# Altium schematic symbol library Library.SchLib: 692 symbols (part 10 of 11)
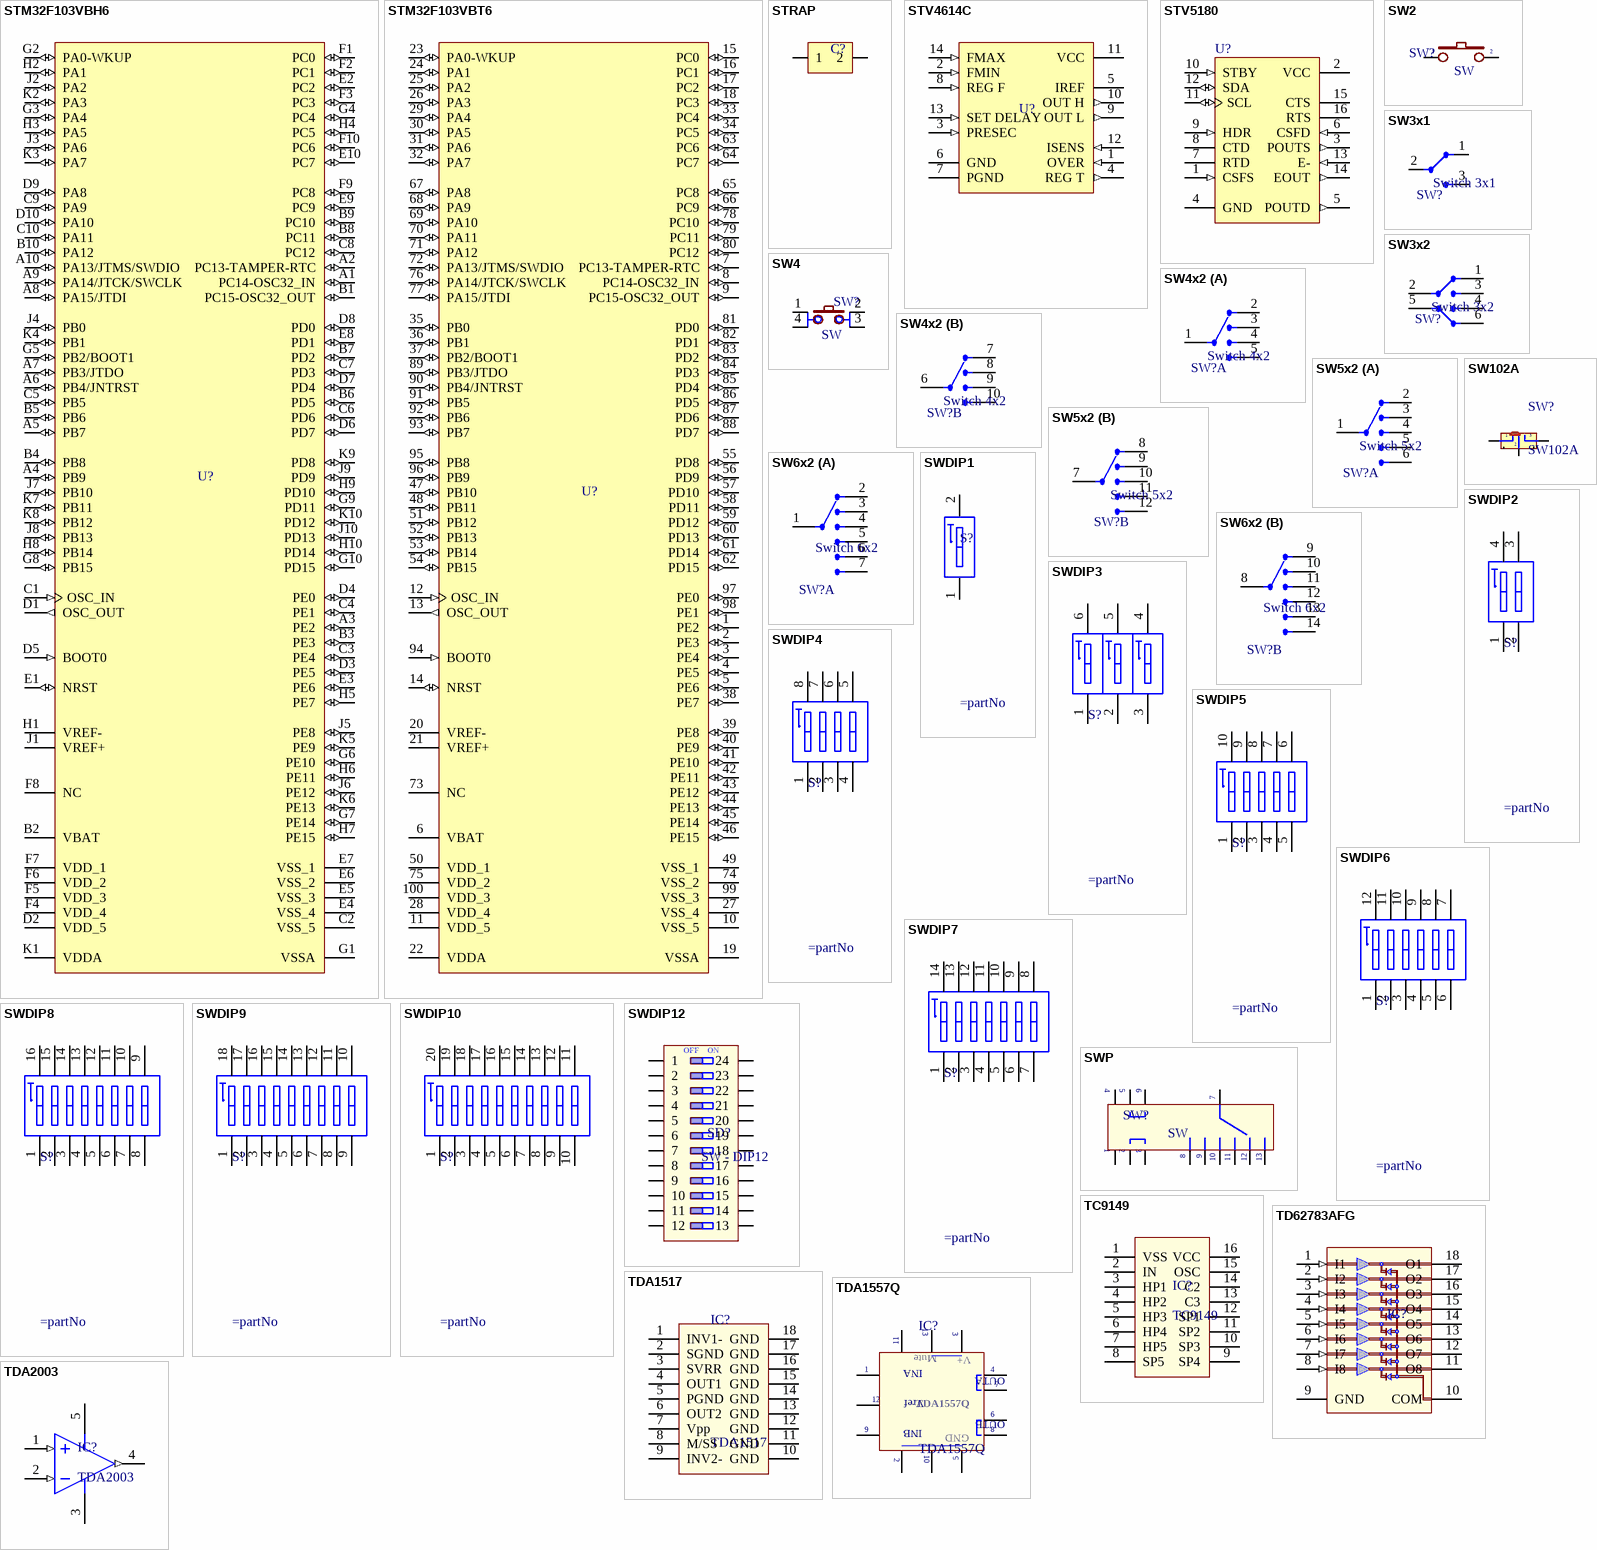
[diagram p55: symbols STM32F103VBH6 to TDA2003]

## STM32F103VBT6
designator U?
STM32 ARM-based 32-bit MCU with 64 Kbytes Flash, 100-pin LQFP, Industrial Temperature; Published: 30-May-2008; DatasheetVersion: rev6, Mar-2008; PackageVersion: Mar-2008; PackageReference: LQFP100; Publisher: Altium Limited; PackageDescription: 100-Pin Low-Profile Quad Flat Pack, 14 x 14 mm Body, 0.5 mm Pitch (LQFP100); ComponentLink1Description: Manufacturer Link; ComponentLink1URL: www.st.com/stm32; ComponentLink2Description: Datasheet; ComponentLink2URL: http://www.st.com/stonline/products/literature/ds/13587.pdf
footprint TQFP100L (TQFP, 100-Leads, Body 14.00x14.00mm, Pitch 0.50mm, IPC High Density)
pins: 1 PE2 (io), 2 PE3 (io), 3 PE4 (io), 4 PE5 (io), 5 PE6 (io), 6 VBAT (power), 7 PC13-TAMPER-RTC (io), 8 PC14-OSC32_IN (io), 9 PC15-OSC32_OUT (io), 10 VSS_5 (power), 11 VDD_5 (power), 12 OSC_IN (in), 13 OSC_OUT (out), 14 NRST (io), 15 PC0 (io), 16 PC1 (io), 17 PC2 (io), 18 PC3 (io), 19 VSSA (power), 20 VREF- (power), 21 VREF+ (power), 22 VDDA (power), 23 PA0-WKUP (io), 24 PA1 (io), 25 PA2 (io), 26 PA3 (io), 27 VSS_4 (power), 28 VDD_4 (power), 29 PA4 (io), 30 PA5 (io), 31 PA6 (io), 32 PA7 (io), 33 PC4 (io), 34 PC5 (io), 35 PB0 (io), 36 PB1 (io), 37 PB2/BOOT1 (io), 38 PE7 (io), 39 PE8 (io), 40 PE9 (io), 41 PE10 (io), 42 PE11 (io), 43 PE12 (io), 44 PE13 (io), 45 PE14 (io), 46 PE15 (io), 47 PB10 (io), 48 PB11 (io), 49 VSS_1 (power), 50 VDD_1 (power), 51 PB12 (io), 52 PB13 (io), 53 PB14 (io), 54 PB15 (io), 55 PD8 (io), 56 PD9 (io), 57 PD10 (io), 58 PD11 (io), 59 PD12 (io), 60 PD13 (io), 61 PD14 (io), 62 PD15 (io), 63 PC6 (io), 64 PC7 (io), 65 PC8 (io), 66 PC9 (io), 67 PA8 (io), 68 PA9 (io), 69 PA10 (io), 70 PA11 (io), 71 PA12 (io), 72 PA13/JTMS/SWDIO (io), 73 NC, 74 VSS_2 (power), 75 VDD_2 (power), 76 PA14/JTCK/SWCLK (io), 77 PA15/JTDI (io), 78 PC10 (io), 79 PC11 (io), 80 PC12 (io), 81 PD0 (io), 82 PD1 (io), 83 PD2 (io), 84 PD3 (io), 85 PD4 (io), 86 PD5 (io), 87 PD6 (io), 88 PD7 (io), 89 PB3/JTDO (io), 90 PB4/JNTRST (io), 91 PB5 (io), 92 PB6 (io), 93 PB7 (io), 94 BOOT0 (in), 95 PB8 (io), 96 PB9 (io), 97 PE0 (io), 98 PE1 (io), 99 VSS_3 (power), 100 VDD_3 (power)

## STRAP
designator C?
Manufacturer: W¨¹rth Elektronik eiSos GmbH; partNo: 613002143121; ComponentLink1 Description: Manufacturer; ComponentLink2 Description: Datasheet; NoPins: 02; Created Date: 29 March 2013; ComponentLink1URL: http://www.we-online.com; ComponentLink2URL: http://katalog.we-online.de/em/datasheet/6130xx143121.pdf; Created by: Karrer Zheng
footprint STRAP-3.81
footprint STRAP-4.445
footprint STRAP-5.08
footprint STRAP-6.35
footprint STRAP-7.62
footprint STRAP-10.16
footprint STRAP-8.89
footprint STRAP-11.43
footprint STRAP-12.7
footprint STRAP-13.97
footprint STRAP-15.24
footprint STRAP-16.51
footprint STRAP-17.78
footprint STRAP-19.05
footprint STRAP-20.32
footprint STRAP-21.59
footprint STRAP-22.86
footprint STRAP-24.13
pins: 1, 2

## STV4614C
designator U?
Switch Mode Power Supply Controller; Published: 24-Aug-2001; LatestRevisionDate: 06-Jun-2005; LatestRevisionNote: Stylized 3D Model Added.; DatasheetVersion: May-1995; PackageVersion: Jan-1997; PackageReference: DIP14; Publisher: Altium Limited; PackageDescription: DIP; 14 Leads; Row Spacing 7.62 mm; Pitch 2.54 mm; ComponentLink1Description: Manufacturer Link; ComponentLink1URL: http://www.st.com/
footprint DIP14 (DIP; 14 Leads; Row Spacing 7.62 mm; Pitch 2.54 mm)
pins: 1 OVER (in), 2 FMIN (in), 3 PRESEC (in), 4 REG T (out), 5 IREF, 6 GND (power), 7 PGND (power), 8 REG F (in), 9 OUT L (out), 10 OUT H (out), 11 VCC (power), 12 ISENS (in), 13 SET DELAY (in), 14 FMAX (in)

## STV5180
designator U?
Control I.C. for Switch Mode Power Supply and for Line Deflection; Published: 24-Aug-2001; LatestRevisionDate: 13-Apr-2006; LatestRevisionNote: IPC-7351 Footprint Added.; DatasheetVersion: Aug-1994; PackageVersion: May-1998; PackageReference: SO16; Publisher: Altium Limited; PackageDescription: 16-Pin Small Outline Integrated Circuit 1.27 mm Pitch; Code_IPC: SOIC127P600-16; ComponentLink1Description: Manufacturer Link; ComponentLink1URL: http://www.st.com/
footprint SO16 (SOIC, 16-Leads, Body 9.90x3.91mm, Pitch 1.27mm, IPC Medium Density)
footprint DIP16
pins: 1 CSFS (in), 2 VCC (power), 3 POUTS (out), 4 GND (power), 5 POUTD (out), 6 CSFD (in), 7 RTD, 8 CTD, 9 HDR (in), 10 STBY (in), 11 SCL (io), 12 SDA (io), 13 E- (in), 14 EOUT (out), 15 CTS, 16 RTS

## SW2
designator SW?, comment SW
Switch button 2 pin; Value: SW chip 2 pin
footprint SW1-SMD
footprint SW-DIP1
footprint SW-DIP1-1 (01p, 2.54mm Pitch, Horizontal, Box Type, THT, flat Actuator, red, without Tape, Tube)
footprint SW1-DIP
pins: 1, 2

## SW3x1
designator SW?, comment Switch 3x1
Value: Switch 4x2
footprint SW3x1
pins: 1, 2, 3 I/O2

## SW3x2
designator SW?, comment Switch 3x2
Value: Switch 4x2
footprint SW3-DIP (SW DTDP - 6Pin 260x300x300 mil)
footprint SW3-N
footprint SW3-N1
pins: 1, 2, 3 I/O2, 4, 5 6, 6

## SW4
designator SW?, comment SW
Switch button 4 pin; Value: Button chip 4 pin
footprint SW2-SMD (6*6mm vertical type, SMD, height 5.0mm, black actuator, 160gf, T&R)
footprint SW2-DIP (SW button 4pin, 250 x250 mil)
pins: 1, 2, 3, 4

## SW4x2
designator SW?, comment Switch 4x2
Value: Switch 4x2
footprint SW4X2 (Switch 4x2)
part A pins: 1 Com, 2 I/O1, 3 I/O2, 4 I/O3, 5 I/O4
part B pins: 6 I/O9, 7 Com2, 8 I/O6, 9 I/O7, 10 I/O8

## SW5x2
designator SW?, comment Switch 5x2
Value: Switch 5x2
footprint SW5X2 (Switch 5x2)
part A pins: 1 Com, 2 I/O1, 3 I/O2, 4 I/O3, 5 I/O4, 6 I/O5
part B pins: 7 Com2, 8 I/O6, 9 I/O7, 10 I/O8, 11 I/O9, 12 I/O10

## SW6x2
designator SW?, comment Switch 6x2
Value: Switch 6x2
footprint SW6X2 (Switch 6x2)
part A pins: 1 Com, 2 I/O1, 3 I/O2, 4 I/O3, 5 I/O4, 6 I/O5, 7 I/O6
part B pins: 8 I/O6, 9 I/O7, 10 I/O8, 11 I/O9, 12 I/O10, 13 I/O11, 14 I/O12

## SW102A
designator SW?
Switch 102 on Broad; Value: Switch 102 On Board
footprint SW102 (Switch 102 On Board nho)
footprint SW102T (Switch 102 On Board To)
pins: 1, 2, 3, 4, 5

## SWDIP1
designator S?
WS-DITV 2.54 mm small compact THT flat actuator with top tape; Manufacturer: Wurth Elektronik; Part No.: 418127160901; ComponentLink1 Description: Manufacturer; ComponentLink2 Description: Datasheet; Pole: 01; Created Date: Dec.2015; ComponentLink1URL: http://www.we-online.com; ComponentLink2URL: http://katalog.we-online.de/em/datasheet/4181271609xx.pdf; Created by: Baojun Chen
footprint SW-DIP1
footprint SW-DIP1-1 (01p, 2.54mm Pitch, Horizontal, Box Type, THT, flat Actuator, red, without Tape, Tube)
pins: 1, 2

## SWDIP2
designator S?
WS-DITV 2.54 mm small compact THT flat actuator with top tape; Manufacturer: Wurth Elektronik; Part No.: 418127160902; ComponentLink1 Description: Manufacturer; ComponentLink2 Description: Datasheet; Pole: 02; Created Date: Dec.2015; ComponentLink1URL: http://www.we-online.com; ComponentLink2URL: http://katalog.we-online.de/em/datasheet/4181271609xx.pdf; Created by: Baojun Chen
footprint SW-DIP2 (02p, 2.54mm Pitch, Horizontal, Box Type, THT, flat Actuator, red, without Tape, Tube)
footprint SW-DIP2-1
pins: 1, 2, 3, 4

## SWDIP3
designator S?
WS-DITV 2.54 mm small compact THT flat actuator with top tape; Manufacturer: Wurth Elektronik; Part No.: 418127160901; ComponentLink1 Description: Manufacturer; ComponentLink2 Description: Datasheet; Pole: 01; Created Date: Dec.2015; ComponentLink1URL: http://www.we-online.com; ComponentLink2URL: http://katalog.we-online.de/em/datasheet/4181271609xx.pdf; Created by: Baojun Chen
footprint SW-DIP3 (03p, 2.54mm Pitch, Horizontal, IC Type, THT, raised Actuator, black, without Tape, Tube)
footprint SW-DIP3-1 (03p, 2.54mm Pitch, Horizontal, Box Type, THT, flat Actuator, red, without Tape, Tube)
pins: 1, 2, 3, 4, 5, 6

## SWDIP4
designator S?
WS-DITV 2.54 mm small compact THT flat actuator with top tape; Manufacturer: Wurth Elektronik; Part No.: 418127160904; ComponentLink1 Description: Manufacturer; ComponentLink2 Description: Datasheet; Pole: 04; Created Date: Dec.2015; ComponentLink1URL: http://www.we-online.com; ComponentLink2URL: http://katalog.we-online.de/em/datasheet/4181271609xx.pdf; Created by: Baojun Chen
footprint SW-DIP4 (04p, 2.54mm Pitch, Horizontal, Box Type, THT, flat Actuator, red, without Tape, Tube)
footprint SW-DIP4-1 (08p, 2.54mm Pitch, Horizontal, IC Type, THT, raised Actuator, black, without Tape, Tube)
pins: 1, 2, 3, 4, 5, 6, 7, 8

## SWDIP5
designator S?
WS-DITV 2.54 mm small compact THT flat actuator with top tape; Manufacturer: Wurth Elektronik; Part No.: 418127160905; ComponentLink1 Description: Manufacturer; ComponentLink2 Description: Datasheet; Pole: 05; Created Date: Dec.2015; ComponentLink1URL: http://www.we-online.com; ComponentLink2URL: http://katalog.we-online.de/em/datasheet/4181271609xx.pdf; Created by: Baojun Chen
footprint SW-DIP5 (05p, 2.54mm Pitch, Horizontal, Box Type, THT, flat Actuator, red, without Tape, Tube)
pins: 1, 2, 3, 4, 5, 6, 7, 8, 9, 10

## SWDIP6
designator S?
WS-DITV 2.54 mm small compact THT flat actuator with top tape; Manufacturer: Wurth Elektronik; Part No.: 418127160906; ComponentLink1 Description: Manufacturer; ComponentLink2 Description: Datasheet; Pole: 06; Created Date: Dec.2015; ComponentLink1URL: http://www.we-online.com; ComponentLink2URL: http://katalog.we-online.de/em/datasheet/4181271609xx.pdf; Created by: Baojun Chen
footprint SW-DIP6 (06p, 2.54mm Pitch, Horizontal, Box Type, THT, flat Actuator, red, without Tape, Tube)
pins: 1, 2, 3, 4, 5, 6, 7, 8, 9, 10, 11, 12

## SWDIP7
designator S?
WS-DITV 2.54 mm small compact THT flat actuator with top tape; Manufacturer: Wurth Elektronik; Part No.: 418127160907; ComponentLink1 Description: Manufacturer; ComponentLink2 Description: Datasheet; Pole: 07; Created Date: Dec.2015; ComponentLink1URL: http://www.we-online.com; ComponentLink2URL: http://katalog.we-online.de/em/datasheet/4181271609xx.pdf; Created by: Baojun Chen
footprint SW-DIP7 (07p, 2.54mm Pitch, Horizontal, IC Type, THT, raised Actuator, black, without Tape, Tube)
footprint SW-DIP7-1 (07p, 2.54mm Pitch, Horizontal, Box Type, THT, flat Actuator, red, without Tape, Tube)
pins: 1, 2, 3, 4, 5, 6, 7, 8, 9, 10, 11, 12, 13, 14

## SWDIP8
designator S?
WS-DITV 2.54 mm small compact THT flat actuator with top tape; Manufacturer: Wurth Elektronik; Part No.: 418127160908; ComponentLink1 Description: Manufacturer; ComponentLink2 Description: Datasheet; Pole: 08; Created Date: Dec.2015; ComponentLink1URL: http://www.we-online.com; ComponentLink2URL: http://katalog.we-online.de/em/datasheet/4181271609xx.pdf; Created by: Baojun Chen
footprint SW-DIP8 (16 PIN, W 300mil, Pin to pin 100mil For Switch)
pins: 1, 2, 3, 4, 5, 6, 7, 8, 9, 10, 11, 12, 13, 14, 15, 16

## SWDIP9
designator S?
WS-DITV 2.54 mm small compact THT flat actuator with top tape; Manufacturer: Wurth Elektronik; Part No.: 418127160909; ComponentLink1 Description: Manufacturer; ComponentLink2 Description: Datasheet; Pole: 09; Created Date: Dec.2015; ComponentLink1URL: http://www.we-online.com; ComponentLink2URL: http://katalog.we-online.de/em/datasheet/4181271609xx.pdf; Created by: Baojun Chen
footprint SW-DIP9-1 (09p, 2.54mm Pitch, Horizontal, Box Type, THT, flat Actuator, red, without Tape, Tube)
footprint SW-DIP9 (09p, 2.54mm Pitch, Horizontal, IC Type, THT, raised Actuator, black, without Tape, Tube)
pins: 1, 2, 3, 4, 5, 6, 7, 8, 9, 10, 11, 12, 13, 14, 15, 16, 17, 18

## SWDIP10
designator S?
WS-DITV 2.54 mm small compact THT flat actuator with top tape; Manufacturer: Wurth Elektronik; Part No.: 418127160910; ComponentLink1 Description: Manufacturer; ComponentLink2 Description: Datasheet; Pole: 10; Created Date: Dec.2015; ComponentLink1URL: http://www.we-online.com; ComponentLink2URL: http://katalog.we-online.de/em/datasheet/4181271609xx.pdf; Created by: Baojun Chen
footprint SW-DIP10-1 (10p, 2.54mm Pitch, Horizontal, IC Type, THT, raised Actuator, black, without Tape, Tube)
footprint SW-DIP10 (10p, 2.54mm Pitch, Horizontal, Box Type, THT, flat Actuator, red, without Tape, Tube)
pins: 1, 2, 3, 4, 5, 6, 7, 8, 9, 10, 11, 12, 13, 14, 15, 16, 17, 18, 19, 20

## SWDIP12
designator SD?, comment SW - DIP12
DIP Switch, 12 Position, SPST; Value: SW - DIP12
footprint SW-DIP12 (12p, 2.54mm Pitch, Horizontal, Box Type, THT, flat Actuator, red, without Tape, Tube)
pins: 1, 2, 3, 4, 5, 6, 7, 8, 9, 10, 11, 12, 13, 14, 15, 16, 17, 18, 19, 20, 21, 22, 23, 24
text: OFF; ON

## SWP
designator SW?, comment SW
Switch Power; Value: SW Power
footprint SWP (SW Power)
pins: 1, 2, 3, 4, 5, 6, 7, 8, 9, 10, 11, 12, 13

## TC9149
designator IC?
footprint DIP16
footprint SO16 (SOIC, 16-Leads, Body 9.90x3.91mm, Pitch 1.27mm, IPC Medium Density)
pins: 1 VSS, 2 IN, 3 HP1, 4 HP2, 5 HP3, 6 HP4, 7 HP5, 8 SP5, 9 SP4, 10 SP3, 11 SP2, 12 SP1, 13 C3, 14 C2, 15 OSC, 16 VCC

## TD62783AFG
designator IC?  (value not drawn)
High-Voltage, High-Current Darlington Array; Value: TD62783AFG
footprint DIP18 (DIP; 18 Leads; Row Spacing 7.62 mm; Pitch 2.54 mm)
footprint SO18 (SOIC, 18-Leads, Body 11.6x7.5mm, Pitch 1.27mm, IPC High Density)
pins: 1 I1 (in), 2 I2 (in), 3 I3 (in), 4 I4 (in), 5 I5 (in), 6 I6 (in), 7 I7 (in), 8 I8 (in), 9 GND (power), 10 COM, 11 O8 (oc), 12 O7 (oc), 13 O6 (oc), 14 O5 (oc), 15 O4 (oc), 16 O3 (oc), 17 O2 (oc), 18 O1 (oc)

## TDA1517
designator IC?
Value: TDA1557Q
footprint DIP18 (DIP; 18 Leads; Row Spacing 7.62 mm; Pitch 2.54 mm)
pins: 1 INV1-, 2 SGND, 3 SVRR, 4 OUT1, 5 PGND, 6 OUT2, 7 Vpp, 8 M/SS, 9 INV2-, 10 GND, 11 GND, 12 GND, 13 GND, 14 GND, 15 GND, 16 GND, 17 GND, 18 GND

## TDA1557Q
designator IC?
2 x 22 W BTL stereo car radio power amplifier with speaker protection; Value: TDA1557Q
footprint DIP13
pins: 1 IN1, 2 GND, 3 V+, 4 OUT1A, 5 GND, 6 OUT1B, 7 OUT2A, 8 OUT2B, 9 IN2, 10 GND, 11 Mute, 12 Vref, 13 V+
text: INA; OUTA; OUTB; INB

## TDA2003
designator IC?
10W CAR RADIO AUDIO AMPLIFIER; Value: TDA2003
footprint DIP5
footprint DIP5-T
pins: 1 IN+ (in), 2 IN- (in), 3 V- (power), 4 OUT (out), 5 V+ (power)

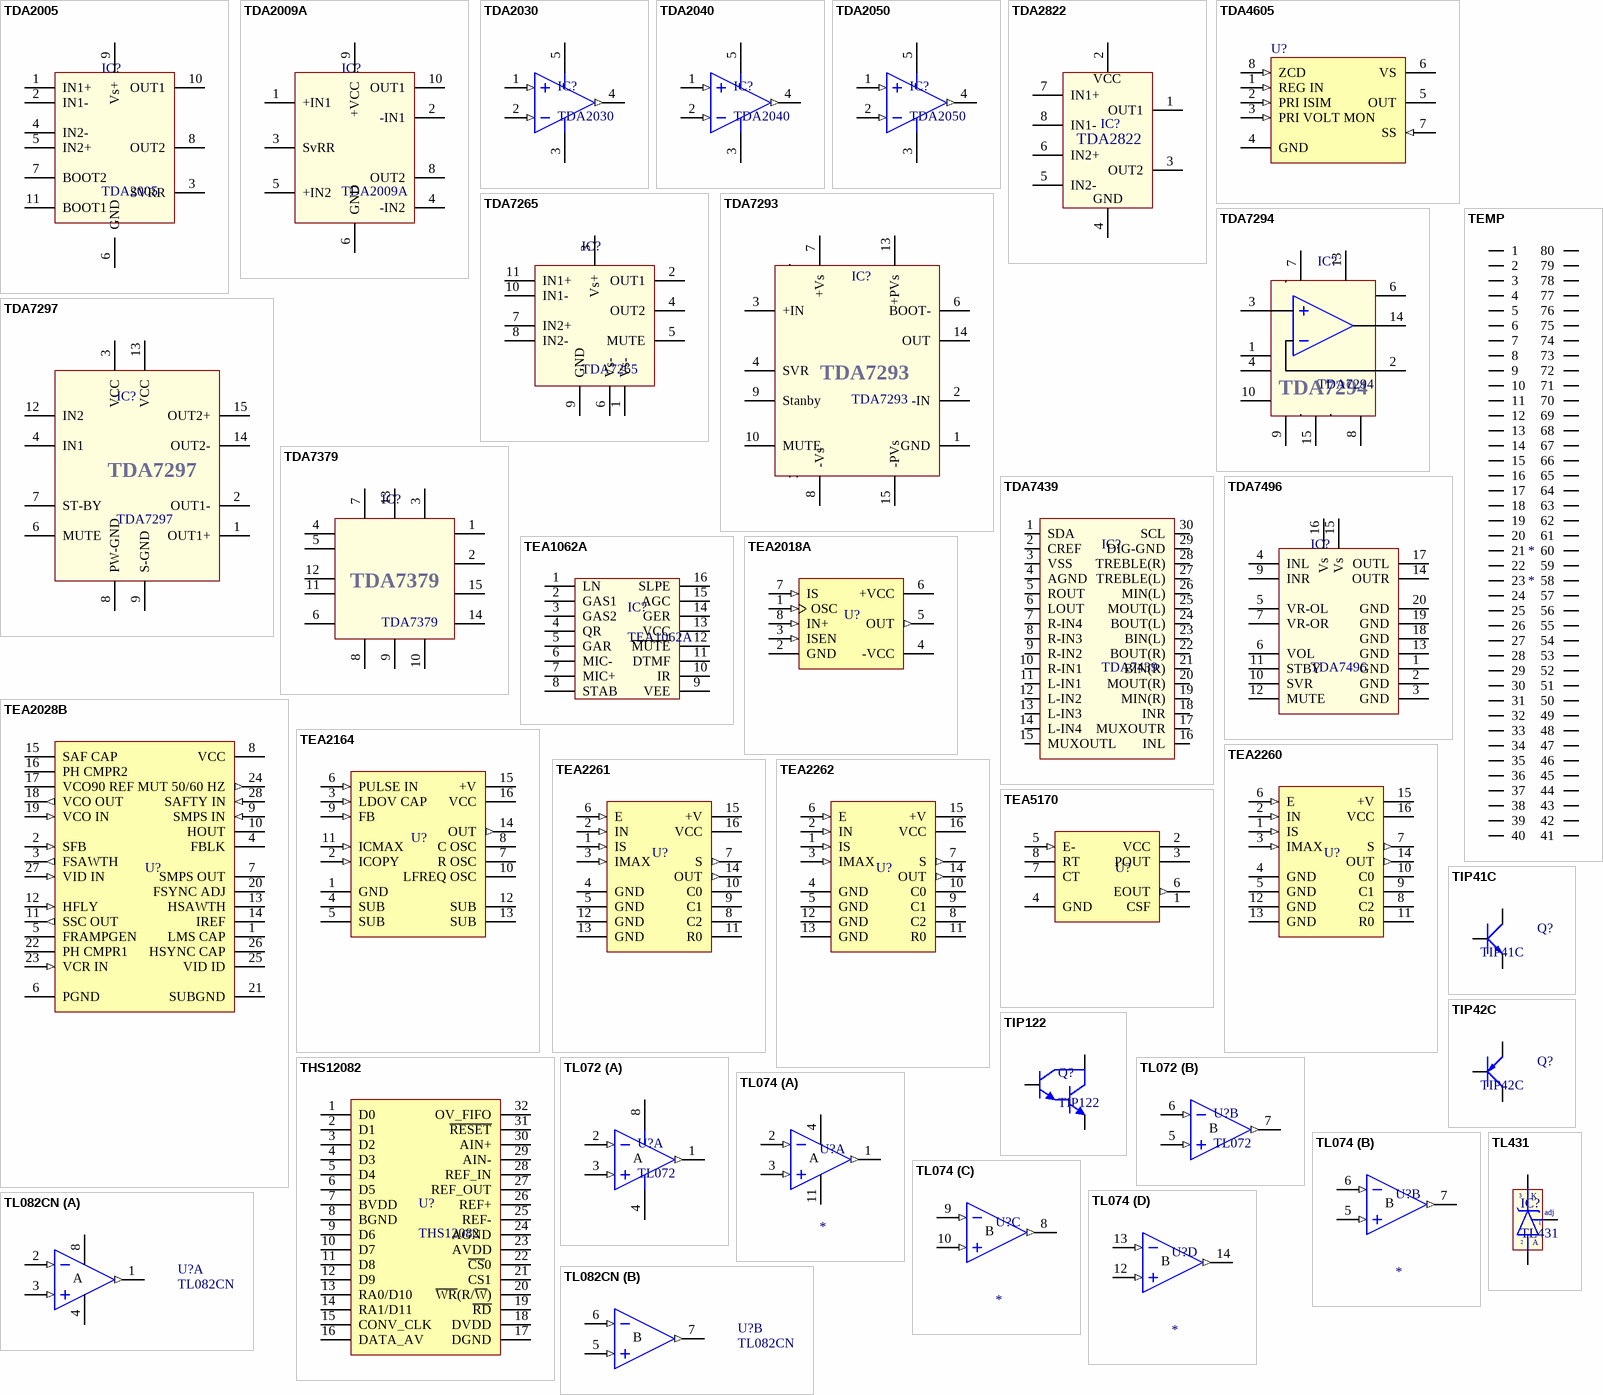
[diagram p42: symbols TDA2005 to TL431]

## TDA2005
designator IC?
Value: TDA1557Q
footprint DIP11
pins: 1 IN1+, 2 IN1-, 3 SVRR, 4 IN2-, 5 IN2+, 6 GND, 7 BOOT2, 8 OUT2, 9 Vs+, 10 OUT1, 11 BOOT1

## TDA2009A
designator IC?
2 x 10 W BTL stereo car radio power amplifier with speaker protection; Value: TDA1557Q
footprint DIP11
pins: 1 +IN1, 2 -IN1, 3 SvRR, 4 -IN2, 5 +IN2, 6 GND, 8 OUT2, 9 +VCC, 10 OUT1

## TDA2030
designator IC?
14W Hi-Fi AUDIO AMPLIFIER; Value: TDA2030
footprint DIP5
pins: 1 IN+ (in), 2 IN- (in), 3 V- (power), 4 OUT (out), 5 V+ (power)

## TDA2040
designator IC?
14W Hi-Fi AUDIO AMPLIFIER; Value: TDA2030
footprint DIP5
pins: 1 IN+ (in), 2 IN- (in), 3 V- (power), 4 OUT (out), 5 V+ (power)

## TDA2050
designator IC?
Value: TDA2030
footprint DIP5
pins: 1 IN+ (in), 2 IN- (in), 3 V- (power), 4 OUT (out), 5 V+ (power)

## TDA2822
designator IC?  (value not drawn)
Dual Low Voltage Power Amplifire
footprint DIP8
footprint SO8
pins: 1 OUT1, 2 VCC, 3 OUT2, 4 GND "VCC", 5 IN2- "VCC", 6 IN2+ "VCC", 7 IN1+ "VCC", 8 IN1- "VCC"

## TDA4605
designator U?
Control Circuit for Switch Mode Power Supplie using MOS Transistors; Published: 24-Aug-2001; LatestRevisionDate: 06-Jun-2005; LatestRevisionNote: Stylized 3D Model Added.; DatasheetVersion: Apr-1996; PackageReference: DIP8; Publisher: Altium Limited; PackageDescription: DIP; 8 Leads; Row Spacing 7.62 mm; Pitch 2.54 mm; Code_JEDEC: MO-001-AN; ComponentLink1Description: Manufacturer Link; ComponentLink1URL: http://www.st.com/; ComponentLink2Description: Datasheet; ComponentLink2URL: http://www.st.com/stonline/products/literature/ds/9775/tda4605.pdf
footprint DIP8
footprint SO8 (SOIC, 8-Leads, Body 4.9x3.9mm, Pitch 1.27mm, IPC High Density)
pins: 1 REG IN (in), 2 PRI ISIM (in), 3 PRI VOLT MON (in), 4 GND (power), 5 OUT (power), 6 VS (power), 7 SS (in), 8 ZCD (in)

## TDA7265
designator IC?
Value: TDA1557Q
footprint DIP11
pins: 1 Vs-, 2 OUT1, 3 Vs+, 4 OUT2, 5 MUTE, 6 Vs-, 7 IN2+, 8 IN2-, 9 GND, 10 IN1-, 11 IN1+

## TDA7293
designator IC?
100V - 100W DMOS AUDIO AMPLIFIER WITH MUTE/ST-BY; Value: TDA1557Q
footprint DIP15SL2
footprint DIP15
pins: 1 GND, 2 -IN, 3 +IN, 4 SVR, 5 NC, 6 BOOT-, 7 +Vs, 8 -Vs, 9 Stanby, 10 MUTE, 11 NC, 12 NC, 13 +PVs, 14 OUT, 15 -PVs

## TDA7294
designator IC?
100V - 100W DMOS AUDIO AMPLIFIER WITH MUTE/ST-BY; Value: TDA1557Q
footprint DIP15SL2
footprint DIP15
pins: 1, 2, 3, 4, 5 NC, 6, 7, 8, 9, 10, 11 NC, 12 NC, 13, 14, 15

## TDA7297
designator IC?
100V - 100W DMOS AUDIO AMPLIFIER WITH MUTE/ST-BY; Value: TDA1557Q
footprint DIP15SL2
footprint DIP15
pins: 1 OUT1+, 2 OUT1-, 3 VCC, 4 IN1, 6 MUTE, 7 ST-BY, 8 PW-GND, 9 S-GND, 12 IN2, 13 VCC, 14 OUT2-, 15 OUT2+

## TDA7379
designator IC?
100V - 100W DMOS AUDIO AMPLIFIER WITH MUTE/ST-BY; Value: TDA1557Q
footprint DIP15SL2
footprint DIP15
pins: 1, 2, 3, 4, 5, 6, 7, 8, 9, 10, 11, 12, 13, 14, 15

## TDA7439
designator IC?
100V - 100W DMOS AUDIO AMPLIFIER WITH MUTE/ST-BY; Value: TDA1557Q
footprint SDIP30
pins: 1 SDA, 2 CREF, 3 VSS, 4 AGND, 5 ROUT, 6 LOUT, 7 R-IN4, 8 R-IN3, 9 R-IN2, 10 R-IN1, 11 L-IN1, 12 L-IN2, 13 L-IN3, 14 L-IN4, 15 MUXOUTL, 16 INL, 17 MUXOUTR, 18 INR, 19 MIN(R), 20 MOUT(R), 21 BIN(R), 22 BOUT(R), 23 BIN(L), 24 BOUT(L), 25 MOUT(L), 26 MIN(L), 27 TREBLE(L), 28 TREBLE(R), 29 DIG-GND, 30 SCL

## TDA7496
designator IC?
Value: TDA1557Q
footprint DIP20 (DIP 20, 20 PIN, W 300mil, Pin to pin 100mil)
pins: 1 GND, 2 GND, 3 GND, 4 INL, 5 VR-OL, 6 VOL, 7 VR-OR, 9 INR, 10 SVR, 11 STBY, 12 MUTE, 13 GND, 14 OUTR, 15 Vs, 16 Vs, 17 OUTL, 18 GND, 19 GND, 20 GND

## TEA1062A
designator IC?
Low voltage transmission circuits with dialler interface; Creat by: VanDungEvn@Gmail.com
footprint DIP16
footprint SO16 (SOIC, 16-Leads, Body 9.90x3.91mm, Pitch 1.27mm, IPC Medium Density)
pins: 1 LN, 2 GAS1, 3 GAS2, 4 QR, 5 GAR, 6 MIC-, 7 MIC+, 8 STAB, 9 VEE, 10 IR, 11 DTMF, 12 ~{MUTE}, 13 VCC, 14 GER, 15 AGC, 16 SLPE

## TEA2018A
designator U?
Current Mode Switching Power Supply Control Circuit; Published: 24-Aug-2001; LatestRevisionDate: 06-Jun-2005; LatestRevisionNote: Stylized 3D Model Added.; DatasheetVersion: May-1993; PackageReference: DIP8; Publisher: Altium Limited; PackageDescription: DIP; 8 Leads; Row Spacing 7.62 mm; Pitch 2.54 mm; Code_JEDEC: MO-001-AN; ComponentLink1Description: Manufacturer Link; ComponentLink1URL: http://www.st.com/
footprint DIP8 (DIP; 8 Leads; Row Spacing 7.62 mm; Pitch 2.54 mm)
footprint SO8 (SOIC, 8-Leads, Body 4.9x3.9mm, Pitch 1.27mm, IPC High Density)
pins: 1 OSC (in), 2 GND (power), 3 ISEN (in), 4 -VCC (power), 5 OUT (out), 6 +VCC (power), 7 IS (in), 8 IN+ (in)

## TEA2028B
designator U?
Color TV Scanning and Power Supply Processor; Published: 24-Aug-2001; LatestRevisionDate: 06-Jun-2005; LatestRevisionNote: Stylized 3D Model Added.; DatasheetVersion: Aug-1993; PackageVersion: Jan-2003; PackageReference: PDIP28; Publisher: Altium Limited; PackageDescription: DIP; 28 Leads; Row Spacing 15.24 mm; Pitch 2.54 mm; ComponentLink1Description: Manufacturer Link; ComponentLink1URL: http://www.st.com/
footprint DIP28/W0.6 (DIP28/W.600, Pin to pin 100mil)
pins: 1 LMS CAP, 2 SFB (in), 3 FSAWTH (out), 4 FBLK (oc), 5 FRAMPGEN, 6 PGND (power), 7 SMPS OUT (oe), 8 VCC (power), 9 SMPS IN (in), 10 HOUT (oc), 11 SSC OUT (out), 12 HFLY (in), 13 HSAWTH, 14 IREF, 15 SAF CAP, 16 PH CMPR2, 17 VCO90 REF, 18 VCO OUT (out), 19 VCO IN (in), 20 FSYNC ADJ, 21 SUBGND (power), 22 PH CMPR1, 23 VCR IN (in), 24 MUT 50/60 HZ (out), 25 VID ID, 26 HSYNC CAP, 27 VID IN (in), 28 SAFTY IN (in)

## TEA2164
designator U?
Switch Mode Power Supply Primary Circuit; Published: 24-Aug-2001; LatestRevisionDate: 06-Jun-2005; LatestRevisionNote: Stylized 3D Model Added.; DatasheetVersion: Dec-1992; PackageVersion: Apr-1996; PackageReference: DIP16; Publisher: Altium Limited; PackageDescription: DIP; 16 Leads; Row Spacing 7.62 mm; Pitch 2.54 mm; ComponentLink1Description: Manufacturer Link; ComponentLink1URL: http://www.st.com/
footprint DIP16 (DIP; 16 Leads; Row Spacing 7.62 mm; Pitch 2.54 mm)
pins: 1 GND (power), 2 ICOPY (in), 3 LDOV CAP (in), 4 SUB (power), 5 SUB (power), 6 PULSE IN (in), 7 R OSC, 8 C OSC, 9 FB (in), 10 LFREQ OSC, 11 ICMAX (in), 12 SUB (power), 13 SUB (power), 14 OUT (out), 15 +V (power), 16 VCC (power)

## TEA2260
designator U?
Switch Mode Power Supply Controller; Published: 24-Aug-2001; LatestRevisionDate: 06-Jun-2005; LatestRevisionNote: Stylized 3D Model Added.; DatasheetVersion: Jun-1992; PackageVersion: Apr-1996; PackageReference: DIP16; Publisher: Altium Limited; PackageDescription: DIP; 16 Leads; Row Spacing 7.62 mm; Pitch 2.54 mm; ComponentLink1Description: Manufacturer Link; ComponentLink1URL: http://www.st.com/; ComponentLink2Description: Datasheet; ComponentLink2URL: http://www.st.com/stonline/products/literature/ds/9953/tea2261.pdf
footprint DIP16 (DIP; 16 Leads; Row Spacing 7.62 mm; Pitch 2.54 mm)
pins: 1 IS (in), 2 IN (in), 3 IMAX (in), 4 GND (power), 5 GND (power), 6 E (in), 7 S (out), 8 C2, 9 C1, 10 C0, 11 R0, 12 GND (power), 13 GND (power), 14 OUT (out), 15 +V (power), 16 VCC (power)

## TEA2261
designator U?
Switch Mode Power Supply Controller; Published: 24-Aug-2001; LatestRevisionDate: 06-Jun-2005; LatestRevisionNote: Stylized 3D Model Added.; DatasheetVersion: Jun-1992; PackageVersion: Apr-1996; PackageReference: DIP16; Publisher: Altium Limited; PackageDescription: DIP; 16 Leads; Row Spacing 7.62 mm; Pitch 2.54 mm; ComponentLink1Description: Manufacturer Link; ComponentLink1URL: http://www.st.com/; ComponentLink2Description: Datasheet; ComponentLink2URL: http://www.st.com/stonline/products/literature/ds/9953/tea2261.pdf
footprint DIP16 (DIP; 16 Leads; Row Spacing 7.62 mm; Pitch 2.54 mm)
pins: 1 IS (in), 2 IN (in), 3 IMAX (in), 4 GND (power), 5 GND (power), 6 E (in), 7 S (out), 8 C2, 9 C1, 10 C0, 11 R0, 12 GND (power), 13 GND (power), 14 OUT (out), 15 +V (power), 16 VCC (power)

## TEA2262
designator U?
Switch Mode Power Supply Controller; Published: 24-Aug-2001; LatestRevisionDate: 06-Jun-2005; LatestRevisionNote: Stylized 3D Model Added.; DatasheetVersion: Apr-1996; PackageVersion: Apr-1996; PackageReference: DIP16; Publisher: Altium Limited; PackageDescription: DIP; 16 Leads; Row Spacing 7.62 mm; Pitch 2.54 mm; ComponentLink1Description: Manufacturer Link; ComponentLink1URL: http://www.st.com/; ComponentLink2Description: Datasheet; ComponentLink2URL: http://www.st.com/stonline/products/literature/ds/10453/tea2262.pdf
footprint DIP16 (DIP; 16 Leads; Row Spacing 7.62 mm; Pitch 2.54 mm)
pins: 1 IS (in), 2 IN (in), 3 IMAX (in), 4 GND (power), 5 GND (power), 6 E (in), 7 S (out), 8 C2, 9 C1, 10 C0, 11 R0, 12 GND (power), 13 GND (power), 14 OUT (out), 15 +V (power), 16 VCC (power)

## TEA5170
designator U?
Switch Mode Power Supply Secondary Circuit; Published: 24-Aug-2001; LatestRevisionDate: 06-Jun-2005; LatestRevisionNote: Stylized 3D Model Added.; DatasheetVersion: Sep-1993; PackageReference: DIP8; Publisher: Altium Limited; PackageDescription: DIP; 8 Leads; Row Spacing 7.62 mm; Pitch 2.54 mm; Code_JEDEC: MO-001-AN; ComponentLink1Description: Manufacturer Link; ComponentLink1URL: http://www.st.com/
footprint DIP8 (DIP; 8 Leads; Row Spacing 7.62 mm; Pitch 2.54 mm)
pins: 1 CSF, 2 VCC (power), 3 POUT (power), 4 GND (power), 5 E- (in), 6 EOUT (out), 7 CT, 8 RT

## TEMP
designator *
pins: 1, 2, 3, 4, 5, 6, 7, 8, 9, 10, 11, 12, 13, 14, 15, 16, 17, 18, 19, 20, 21, 22, 23, 24, 25, 26, 27, 28, 29, 30, 31, 32, 33, 34, 35, 36, 37, 38, 39, 40, 41, 42, 43, 44, 45, 46, 47, 48, 49, 50, 51, 52, 53, 54, 55, 56, 57, 58, 59, 60, 61, 62, 63, 64, 65, 66, 67, 68, 69, 70, 71, 72, 73, 74, 75, 76, 77, 78, 79, 80

## THS12082
designator U?
footprint TSSOP32 (TSSOP, 32-Leads, Body 11.10x6.10mm, Pitch 0.65mm, IPC High Density)
pins: 1 D0, 2 D1, 3 D2, 4 D3, 5 D4, 6 D5, 7 BVDD, 8 BGND, 9 D6, 10 D7, 11 D8, 12 D9, 13 RA0/D10, 14 RA1/D11, 15 CONV_CLK, 16 DATA_AV, 17 DGND, 18 DVDD, 19 ~{RD}, 20 ~{WR}(R/~{W}), 21 CS1, 22 ~{CS}0, 23 AVDD, 24 AGND, 25 REF-, 26 REF+, 27 REF_OUT, 28 REF_IN, 29 AIN-, 30 AIN+, 31 ~{RESET}, 32 OV_FIFO

## TIP41C
designator Q?
NPN 2W, BCE; Value: TIP41C
footprint TO220-123 (TO-220 - 1-2-3)
footprint TO220H1 (TO-220 - 1-2-3)
footprint TO220H2 (TO-220 - 1-2-3)
footprint TO220H3 (TO-220 1-2-3)
pins: 1 B, 2 C, 3 E

## TIP42C
designator Q?
PNP 2W, BCE; Value: TIP42C
footprint TO220-123 (TO-220 - 1-2-3)
footprint TO220H1 (TO-220 - 1-2-3)
footprint TO220H2 (TO-220 - 1-2-3)
footprint TO220H3 (TO-220 1-2-3)
pins: 1 B, 2 C, 3 E

## TIP122
designator Q?
Darlington Silicon Power NPN Transistor, 8 Amp, 100 Volts and 65 Watts
footprint TO220-123 (TO-220 - 1-2-3)
pins: 1 B, 2 C, 3 E

## TL072
designator U?
footprint DIP8
footprint SO8 (SOIC, 8-Leads, Body 4.9x3.9mm, Pitch 1.27mm, IPC High Density)
part A pins: 1 OUT (out), 2 IN- (in), 3 IN+ (in), 4 V- (power), 8 V+ (power)
part B pins: 5 IN+ (in), 6 IN- (in), 7 OUT (out)
part A text: A
part B text: B

## TL074
designator U?
TL074
footprint SO14
footprint DIP14
part A pins: 1 OUT (out), 2 IN- (in), 3 IN+ (in), 4 V+ (power), 11 V- (power)
part B pins: 5 IN+ (in), 6 IN- (in), 7 OUT (out)
part C pins: 8 OUT (out), 9 IN- (in), 10 IN+ (in)
part D pins: 12 IN+ (in), 13 IN- (in), 14 OUT (out)
part A text: A
part B text: B
part C text: B
part D text: B

## TL082CN
designator U?
General-Purpose J-FET Dual Operational Amplifier; Published: 24-Aug-2001; LatestRevisionDate: 06-Jun-2005; LatestRevisionNote: Stylized 3D Model Added.; DatasheetVersion: Jan-1999; PackageReference: DIP8; Publisher: Altium Limited; PackageDescription: DIP; 8 Leads; Row Spacing 7.62 mm; Pitch 2.54 mm; Code_JEDEC: MO-001-AN; ComponentLink1Description: Manufacturer Link; ComponentLink1URL: http://www.st.com/; ComponentLink2Description: Datasheet; ComponentLink2URL: http://www.st.com/stonline/products/literature/ds/2300/tl082.pdf
footprint DIP8
footprint SO8 (SOIC, 8-Leads, Body 4.9x3.9mm, Pitch 1.27mm, IPC High Density)
part A pins: 1 OUT (out), 2 IN- (in), 3 IN+ (in), 4, 8
part B pins: 5 IN+ (in), 6 IN- (in), 7 OUT (out)
part A text: A
part B text: B

## TL431
designator IC?
Programmable Shunt Regulator; Value: TL431
footprint TO92-123 (TO-92)
pins: 1 adj, 2 A, 3 K

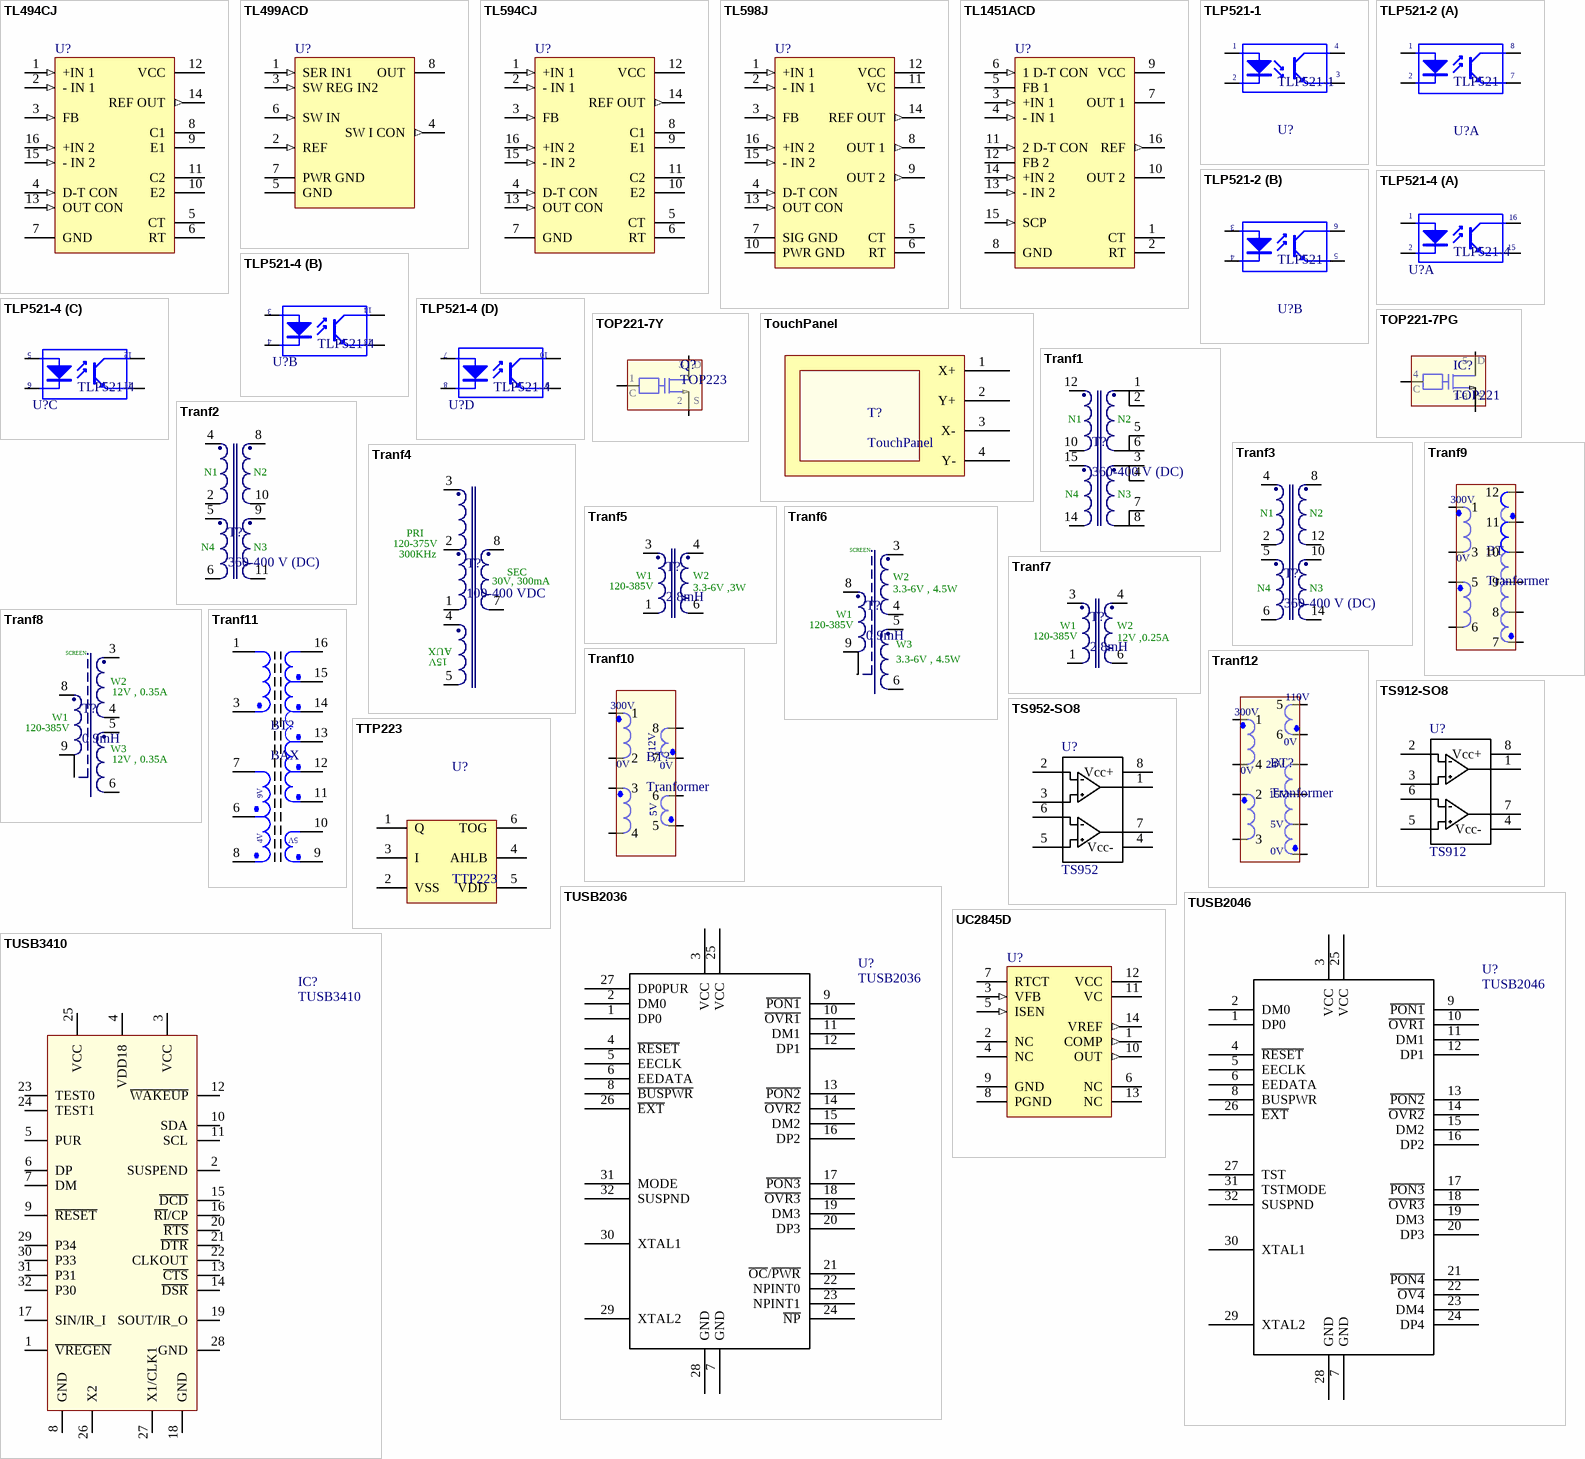
[diagram p43: symbols TL494CJ to UC2845D]

## TL494CJ
designator U?
Pulse-Width-Modulation Control Circuit; Published: 15-Apr-2002; LatestRevisionDate: 06-Jun-2005; LatestRevisionNote: Stylized 3D Model Added.; DatasheetVersion: Oct-1988; PackageVersion: Jun-1999; PackageReference: J016; Publisher: Altium Limited; PackageDescription: DIP; 16 Leads; Row Spacing 7.62 mm; Pitch 2.54 mm; ComponentLink1Description: Manufacturer Link; ComponentLink1URL: http://www.ti.com/
footprint DIP16
footprint SO16 (SOIC, 16-Leads, Body 9.90x3.91mm, Pitch 1.27mm, IPC Medium Density)
footprint TSOP16 (TSOP, 16-Leads, Body 5.10x4.40mm, Pitch 0.65mm, IPC High Density)
pins: 1 +IN 1 (in), 2 - IN 1 (in), 3 FB (in), 4 D-T CON (in), 5 CT, 6 RT, 7 GND (power), 8 C1, 9 E1, 10 E2, 11 C2, 12 VCC (power), 13 OUT CON (in), 14 REF OUT (out), 15 - IN 2 (in), 16 +IN 2 (in)

## TL499ACD
designator U?
Wide-Range Power Supply Controller; Published: 15-Apr-2002; LatestRevisionDate: 13-Apr-2006; LatestRevisionNote: IPC-7351 Footprint Added.; DatasheetVersion: Feb-1989; PackageVersion: Jan-1998; PackageReference: D008; Publisher: Altium Limited; PackageDescription: 8-Pin Small Outline Integrated Circuit 1.27 mm Pitch; Code_IPC: SOIC127P600-8; ComponentLink1Description: Manufacturer Link; ComponentLink1URL: http://www.ti.com/
footprint SSO8 (SSOIC, 8-Leads, Body 6.20x5.30mm, Pitch 1.27mm, IPC Medium Density)
footprint DIP8
pins: 1 SER IN1 (in), 2 REF (in), 3 SW REG IN2 (in), 4 SW I CON (out), 5 GND (power), 6 SW IN (in), 7 PWR GND (power), 8 OUT (power)

## TL594CJ
designator U?
Pulse-Width-Modulation Control Circuit; Published: 15-Apr-2002; LatestRevisionDate: 06-Jun-2005; LatestRevisionNote: Stylized 3D Model Added.; DatasheetVersion: Oct-1988; PackageVersion: Jun-1999; PackageReference: J016; Publisher: Altium Limited; PackageDescription: DIP; 16 Leads; Row Spacing 7.62 mm; Pitch 2.54 mm; ComponentLink1Description: Manufacturer Link; ComponentLink1URL: http://www.ti.com/
footprint DIP16
footprint SO16 (SOIC, 16-Leads, Body 9.90x3.91mm, Pitch 1.27mm, IPC Medium Density)
footprint TSOP16 (TSOP, 16-Leads, Body 5.10x4.40mm, Pitch 0.65mm, IPC High Density)
pins: 1 +IN 1 (in), 2 - IN 1 (in), 3 FB (in), 4 D-T CON (in), 5 CT, 6 RT, 7 GND (power), 8 C1, 9 E1, 10 E2, 11 C2, 12 VCC (power), 13 OUT CON (in), 14 REF OUT (out), 15 - IN 2 (in), 16 +IN 2 (in)

## TL598J
designator U?
Pulse-Width-Modulation Control Circuit; Published: 15-Apr-2002; LatestRevisionDate: 06-Jun-2005; LatestRevisionNote: Stylized 3D Model Added.; DatasheetVersion: Oct-1988; PackageVersion: Jun-1999; PackageReference: J016; Publisher: Altium Limited; PackageDescription: DIP; 16 Leads; Row Spacing 7.62 mm; Pitch 2.54 mm; ComponentLink1Description: Manufacturer Link; ComponentLink1URL: http://www.ti.com/
footprint SO16 (SOIC, 16-Leads, Body 9.90x3.91mm, Pitch 1.27mm, IPC Medium Density)
footprint DIP16
pins: 1 +IN 1 (in), 2 - IN 1 (in), 3 FB (in), 4 D-T CON (in), 5 CT, 6 RT, 7 SIG GND (power), 8 OUT 1 (out), 9 OUT 2 (out), 10 PWR GND (power), 11 VC (power), 12 VCC (power), 13 OUT CON (in), 14 REF OUT (out), 15 - IN 2 (in), 16 +IN 2 (in)

## TL1451ACD
designator U?
Dual Pulse-Width-Modulation Control Circuit; Published: 15-Apr-2002; LatestRevisionDate: 13-Apr-2006; LatestRevisionNote: IPC-7351 Footprint Added.; DatasheetVersion: Oct-1988; PackageVersion: Jan-1998; PackageReference: D016; Publisher: Altium Limited; PackageDescription: 16-Pin Small Outline Integrated Circuit 1.27 mm Pitch; Code_IPC: SOIC127P600-16; ComponentLink1Description: Manufacturer Link; ComponentLink1URL: http://www.ti.com/
footprint SO16 (SOIC, 16-Leads, Body 9.90x3.91mm, Pitch 1.27mm, IPC Medium Density)
footprint DIP16
pins: 1 CT, 2 RT, 3 +IN 1 (in), 4 - IN 1 (in), 5 FB 1, 6 1 D-T CON (in), 7 OUT 1 (oc), 8 GND (power), 9 VCC (power), 10 OUT 2 (oc), 11 2 D-T CON (in), 12 FB 2, 13 - IN 2 (in), 14 +IN 2 (in), 15 SCP (in), 16 REF (out)

## TLP521-1
designator U?
Single Opto; Value: TLP5211
footprint DIP4
pins: 1 A "Anode", 2 K "Cathode", 3 E "Emitter", 4 C "Collector"

## TLP521-2
designator U?, comment TLP521
Dual Opto; Value: TLP521-2
footprint DIP8
part A pins: 1 A "Anode", 2 K "Cathode", 7 E "Emitter", 8 C "Collector"
part B pins: 3 A "Anode", 4 K "Cathode", 5 E "Emitter", 6 C "Collector"

## TLP521-4
designator U?
Four Opto; Value: TLP521-4
footprint DIP16
part A pins: 1 A "Anode", 2 K "Cathode", 15 E "Emitter", 16 C "Collector"
part B pins: 3 A "Anode", 4 K "Cathode", 13 E "Emitter", 14 C "Collector"
part C pins: 5 A "Anode", 6 K "Cathode", 11 E "Emitter", 12 C "Collector"
part D pins: 7 A "Anode", 8 K "Cathode", 9 E "Emitter", 10 C "Collector"

## TOP221-7PG
designator IC?, comment TOP221
Family Three-terminal Off-line PWM Switch
footprint DIP8
footprint SO8 (SOIC, 8-Leads, Body 4.9x3.9mm, Pitch 1.27mm, IPC High Density)
pins: 1 S, 2 S, 3 S, 4 C, 5 D, 6 S, 7 S, 8 S
text: 1-8

## TOP221-7Y
designator Q?, comment TOP223
Family Three-terminal Off-line PWM Switch; Value: IRF840
footprint TO220H1 (TO-220 - 1-2-3)
footprint TO220-123 (TO-220 - 1-2-3)
footprint TO220NH (TO-220 - 1-2-3)
footprint TO220H3 (TO-220 1-2-3)
footprint TO220H2 (TO-220 - 1-2-3)
pins: 1 C, 2 C, 3 C
text: D; S

## TouchPanel
designator T?
4 wires touch panel; Creator: Nguyen Ba Bien; Date Created: 14-04-2010
footprint JP6-D1T (6 pins, 1 row, straight, gold plating)
footprint JP6-C1T (6 row, straight, gold plating)
pins: 1 X+, 2 Y+, 3 X-, 4 Y-

## Tranf1
designator T?, comment 360-400 V (DC)
Resonant Converter WE-LLCR, Ui=360-400 V (DC); PartNo: 760895731; Manufacturer: Würth Elektronik eiSos GmbH; OutPut Voltage: 12 V; Output Current: 20.8A; (Input Voltage) Ui: 360-400 V (DC); ComponentLink1Description: Manufacturer; ComponentLink1URL: http://www.we-online.de; Created by: Otto Christin; Created Date: NOV 2013; ComponentLink2Description: Datasheet; ComponentLink2URL: http://www.we-online.de/katalog/media/pdf/760895731.pdf
footprint ETD44 (THT Transformer, 12-Leads, Body 48 x 46 mm)
pins: 1, 2, 3, 4, 5, 6, 7, 8, 10, 12, 14, 15
text: N1; N2; N4; N3

## Tranf2
designator T?, comment 360-400 V (DC)
Resonant Converter WE-LLCR, Ui=360-400 V (DC); PartNo: 760895441; Manufacturer: Würth Elektronik eiSos GmbH; OutPut Voltage: 24 V; Output Current: 6.2A; (Input Voltage) Ui: 360-400 V (DC); ComponentLink1Description: Manufacturer; ComponentLink1URL: http://www.we-online.de; Created by: Otto Christin; Created Date: NOV 2013; ComponentLink2Description: Datasheet; ComponentLink2URL: http://katalog.we-online.de/pbs/datasheet/760895441.pdf
footprint ETD34 (THT Transformer, 12-Leads, Body 36 x36 mm)
pins: 2, 4, 5, 6, 8, 9, 10, 11
text: N1; N2; N4; N3

## Tranf3
designator T?, comment 360-400 V (DC)
Resonant Converter WE-LLCR, Ui=360-400 V (DC); PartNo: 760895651; Manufacturer: Würth Elektronik eiSos GmbH; OutPut Voltage: 48 V; Output Current: 4.2A; (Input Voltage) Ui: 360-400 V (DC); ComponentLink1Description: Manufacturer; ComponentLink1URL: http://www.we-online.de; Created by: Otto Christin; Created Date: NOV 2013; ComponentLink2Description: Datasheet; ComponentLink2URL: http://katalog.we-online.de/pbs/datasheet/760895651.pdf
footprint ETD39 (THT Transformer, 14-Leads, Body 44 x43 mm)
pins: 2, 4, 5, 6, 8, 10, 12, 14
text: N1; N2; N4; N3

## Tranf4
designator T?, comment 100-400 VDC
Flyback Transformer suitable or LT3573/ LT3574/ LT3575/ LT3748 WE-FB, Ui=100-400 VDC; PartNo: 750811048; Manufacturer: Würth Elektronik eiSos GmbH; Ui: 100-400 VDC; ComponentLink1Description: Manufacturer; ComponentLink1URL: http://www.we-online.de; Created by: Otto Christin; Created Date: OCT 2013; ComponentLink2Description: Datasheet; ComponentLink2URL: http://katalog.we-online.de/pbs/datasheet/750811048.pdf
footprint EE16/8/5 (TH, 9-Leads, Body 24.38x20.32mm (max), Pitch 3.50mm)
pins: 1, 2, 3, 4, 5, 7, 8
text: PRI; 120-375V; 300KHz; SEC; 30V, 300mA; AUX; 15V

## Tranf5
designator T?, comment 2.8mH
Off-Line Transformer WE-UNIT , L=2.8mH; PartNo: 749118105; Manufacturer: Würth Elektronik eiSos GmbH; Turns Ratio: 18.9:1; Input Votage (AC): 85-265; Output voltage (DC): 5; Output Current (A): 0.6; Inductance: 2.8mH; ComponentLink1Description: Manufacturer; ComponentLink1URL: http://www.we-online.de; Created by: Otto Christin; Created Date: OCT 2013; ComponentLink2Description: Datasheet; ComponentLink2URL: http://www.we-online.de/katalog/media/pdf/749118105.pdf
footprint EE13/7/4-Vertical/(EF12.6) (THT, 6-Leads, Body 15 x11mm (max), Pitch 3.81mm)
pins: 1, 3, 4, 6
text: W1; W2; 120-385V; 3.3-6V ,3W

## Tranf6
designator T?, comment 0.9mH
Off-Line Transformer WE-UNIT , L=0.9mH; PartNo: 749118205; Manufacturer: Würth Elektronik eiSos GmbH; Turns Ratio: 19:1:1; Input Voltage (AC): 85-265; Output Voltage (DC): 5; Output Current (A): 0.6; Inductance: 0.9mH; ComponentLink1Description: Manufacturer; ComponentLink1URL: http://www.we-online.de; Created by: Otto Christin; Created Date: OCT 2013; ComponentLink2Description: Datasheet; ComponentLink2URL: http://www.we-online.de/katalog/media/pdf/749118205.pdf
footprint EE16/7/4 (E16) (THT, 10-Leads, Body 18x16.5mm (max), Pitch 2.7mm)
pins: 3, 4, 5, 6, 8, 9
text: SCREEN; W2; 3.3-6V , 4.5W; W1; 120-385V; W3

## Tranf7
designator T?, comment 2.8mH
Off-Line Transformer WE-UNIT , L=2.8mH; PartNo: 7491181012; Manufacturer: Würth Elektronik eiSos GmbH; Turns Ratio: 8.1:1; Input Voltage (AC): 85-265; Output Current (A): 0.25; Output Voltage (DC): 12; Inductance: 2.8mH; ComponentLink1Description: Manufacturer; ComponentLink1URL: http://www.we-online.de; Created by: Otto Christin; Created Date: OCT 2013; ComponentLink2Description: Datasheet; ComponentLink2URL: http://www.we-online.de/katalog/media/pdf/7491181012.pdf
footprint EE13/7/4-Vertical/(EF12.6) (THT, 6-Leads, Body 15 x11mm (max), Pitch 3.81mm)
pins: 1, 3, 4, 6
text: W1; W2; 120-385V; 12V ,0.25A

## Tranf8
designator T?, comment 0.9mH
Off-Line Transformer WE-UNIT , L=0.9mH; PartNo: 7491182012; Manufacturer: Würth Elektronik eiSos GmbH; Turns Ratio: 9.5:1:1; Input Voltage (AC): 85-265; Output Voltage (DC): 12; Output Current (A): 0.6; Inductance: 0.9mH; ComponentLink1Description: Manufacturer; ComponentLink1URL: http://www.we-online.de; Created by: Otto Christin; Created Date: OCT 2013; ComponentLink2Description: Datasheet; ComponentLink2URL: http://www.we-online.de/katalog/media/pdf/7491182012.pdf
footprint EE16/7/4 (E16) (THT, 10-Leads, Body 18x16.5mm (max), Pitch 2.7mm)
pins: 3, 4, 5, 6, 8, 9
text: SCREEN; W2; 12V , 0.35A; W1; 120-385V; W3

## Tranf9
designator BT, comment Tranformer
Value: BA xung
footprint EE32
pins: 1, 3, 5, 6, 7, 8, 9, 10, 11, 12
text: 300V; 0V

## Tranf10
designator BT?, comment Tranformer
Value: BA xung
footprint EE25
pins: 1, 2, 3, 4, 5, 6, 7, 8
text: 300V; 12V; 0V; 5V

## Tranf11
designator BT?, comment BAX
Bien ap xung DVD; Designed by: VanDungEvn; Value: BAX
footprint BAX_DVD3 (Bien ap xung DVD3)
pins: 1, 3, 6, 7, 8, 9, 10, 11, 12, 13, 14, 15, 16
text: 9V; 5V; 4V

## Tranf12
designator BT?, comment Tranformer
Value: BA xung
footprint EE16/7/4 (E16) (THT, 10-Leads, Body 18x16.5mm (max), Pitch 2.7mm)
pins: 1, 2, 3, 4, 5, 6, 7, 8, 9, 10
text: 110V; 300V; 0V; 24V; 15V; 5V

## TS912-SO8
designator U?, comment TS912
DUAL RAIL TO RAIL OPAMP; Manufacturer Part Number: TS921ID; Manufacturer: STMicroelectronics; Number of Circuits: 1; Slew Rate: 1.3 V/µs; Current - Output / Channel: 80mA; Voltage - Supply, Single/Dual (±): 2.7 V ~ 12 V; Output Type: Rail-to-Rail; Current - Input Bias: 15nA; Gain Bandwidth Product: 4MHz; Amplifier Type: General Purpose; Voltage - Input Offset: 3000µV; Current - Supply: 1mA; NI?: *; O?: *; Section:: *; Supplier 1: Digi-Key; Supplier Part Number 1: TS921ID-ND; Category: Integrated Circuits (ICs); Supplier Part Number: TS921ID-ND; Packaging: Tube; RoHS: RoHS Compliant; Operating Temperature: -40°C ~ 125°C; Supplier: Digi-Key; Package / Case: 8-SOIC (3.9mm Width)
footprint SO8
footprint DIP8
pins: 1, 2, 3, 4 Vcc-, 5, 6, 7, 8 Vcc+

## TS952-SO8
designator U?, comment TS952
DUAL RAIL TO RAIL OPAMP; Manufacturer Part Number: TS952IYDT; Manufacturer: STMicroelectronics; Gain Bandwidth Product: 3MHz; Current - Supply: 950µA; Output Type: Rail-to-Rail; Current - Input Bias: 35nA; Amplifier Type: General Purpose; Voltage - Supply, Single/Dual (±): 2.7 V ~ 12 V; Slew Rate: 1 V/µs; Voltage - Input Offset: 6000µV; Current - Output / Channel: 10mA; Number of Circuits: 2; NI?: *; O?: *; Section:: *; Supplier 1: Digi-Key; Supplier Part Number 1: 497-4777-6-ND; Operating Temperature: -40°C ~ 125°C; Package / Case: 8-SOIC (3.9mm Width); Supplier: Digi-Key; Category: Integrated Circuits (ICs); Packaging: Digi-Reel®; Supplier Part Number: 497-4777-6-ND; RoHS: RoHS Compliant
footprint SO8
footprint DIP8
pins: 1, 2, 3, 4 Vcc-, 5, 6, 7, 8 Vcc+

## TTP223
designator U?
Half-Bridge Driver
footprint SOT23-6
pins: 1 Q, 2 VSS, 3 I, 4 AHLB, 5 VDD, 6 TOG

## TUSB2036
designator U?
4 PORT USB HUB STATE MACHINE; Manufacturer Part Number: TUSB2036VFG4; Manufacturer: Texas Instruments; Current - Supply: 40mA; Interface: Serial EEPROM; Controller Type: USB Hub; Voltage - Supply: 3 V ~ 3.6 V; Supplier 1: Digi-Key; Supplier Part Number 1: 296-17784-ND; Supplier Part Number: 296-17784-ND; RoHS: RoHS Compliant; Supplier: Digi-Key; Package / Case: 32-LQFP; Operating Temperature: 0°C ~ 70°C; Category: Integrated Circuits (ICs); Packaging: Tray
footprint PQFP32 (PQFP, 32-Leads, Body 7.00x7.00mm, Pitch 0.80mm, IPC High Density)
pins: 1 DP0, 2 DM0, 3 VCC, 4 ~{RESET}, 5 EECLK, 6 EEDATA, 7 GND, 8 ~{BUSPWR}, 9 ~{PON1}, 10 ~{OVR1}, 11 DM1, 12 DP1, 13 ~{PON2}, 14 ~{OVR2}, 15 DM2, 16 DP2, 17 ~{PON3}, 18 ~{OVR3}, 19 DM3, 20 DP3, 21 ~{OC}/~{PWR}, 22 NPINT0, 23 NPINT1, 24 ~{NP}, 25 VCC, 26 ~{EXT}, 27 DP0PUR, 28 GND, 29 XTAL2, 30 XTAL1, 31 MODE, 32 SUSPND

## TUSB2046
designator U?
4 PORT USB HUB STATE MACHINE; Manufacturer Part Number: TUSB2046BVF; Manufacturer: Texas Instruments; Voltage - Supply: 3 V ~ 3.6 V; Controller Type: USB Hub; Interface: Serial EEPROM; Current - Supply: 40mA; Supplier 1: Digi-Key; Supplier Part Number 1: 296-11088-ND; Packaging: Tray; Operating Temperature: 0°C ~ 70°C; Package / Case: 32-LQFP; Supplier Part Number: 296-11088-ND; RoHS: RoHS Compliant; Supplier: Digi-Key; Category: Integrated Circuits (ICs)
footprint PQFP32 (PQFP, 32-Leads, Body 7.00x7.00mm, Pitch 0.80mm, IPC High Density)
pins: 1 DP0, 2 DM0, 3 VCC, 4 ~{RESET}, 5 EECLK, 6 EEDATA, 7 GND, 8 BUSPWR, 9 ~{PON1}, 10 ~{OVR1}, 11 DM1, 12 DP1, 13 ~{PON2}, 14 ~{OVR2}, 15 DM2, 16 DP2, 17 ~{PON3}, 18 ~{OVR3}, 19 DM3, 20 DP3, 21 ~{PON4}, 22 ~{OV}~{4}, 23 DM4, 24 DP4, 25 VCC, 26 ~{EXT}, 27 TST, 28 GND, 29 XTAL2, 30 XTAL1, 31 TSTMODE, 32 SUSPND

## TUSB3410
designator IC?
USB to RS232 Converter; Value: TUSB 3410
footprint TQFP32 (Thin QFP, 32-Leads, Body 9x9mm, Pitch 0.8mm, IPC Low Density)
pins: 1 ~{VREGEN}, 2 SUSPEND, 3 VCC, 4 VDD18, 5 PUR, 6 DP, 7 DM, 8 GND, 9 ~{RESET}, 10 SDA, 11 SCL, 12 ~{WAKEUP}, 13 ~{CTS}, 14 ~{DSR}, 15 ~{DCD}, 16 ~{RI}/CP, 17 SIN/IR_I, 18 GND, 19 SOUT/IR_O, 20 ~{RTS}, 21 ~{DTR}, 22 CLKOUT, 23 TEST0, 24 TEST1, 25 VCC, 26 X2, 27 X1/CLK1, 28 GND, 29 P34, 30 P33, 31 P31, 32 P30

## UC2845D
designator U?
Current Mode PWM Controller; Published: 24-Aug-2001; LatestRevisionDate: 13-Apr-2006; LatestRevisionNote: IPC-7351 Footprint Added.; DatasheetVersion: Oct-1998; PackageVersion: Sep-1998; PackageReference: SO14; Publisher: Altium Limited; PackageDescription: 14-Pin Small Outline Integrated Circuit 1.27 mm Pitch; Code_IPC: SOIC127P600-14; ComponentLink1Description: Manufacturer Link; ComponentLink1URL: http://www.st.com/
footprint SO14 (SOIC, 14-Leads, Body 8.60x3.90mm, Pitch 1.27mm, IPC Medium Density)
pins: 1 COMP (out), 2 NC, 3 VFB (in), 4 NC, 5 ISEN (in), 6 NC, 7 RTCT, 8 PGND (power), 9 GND (power), 10 OUT (out), 11 VC (power), 12 VCC (power), 13 NC, 14 VREF (out)

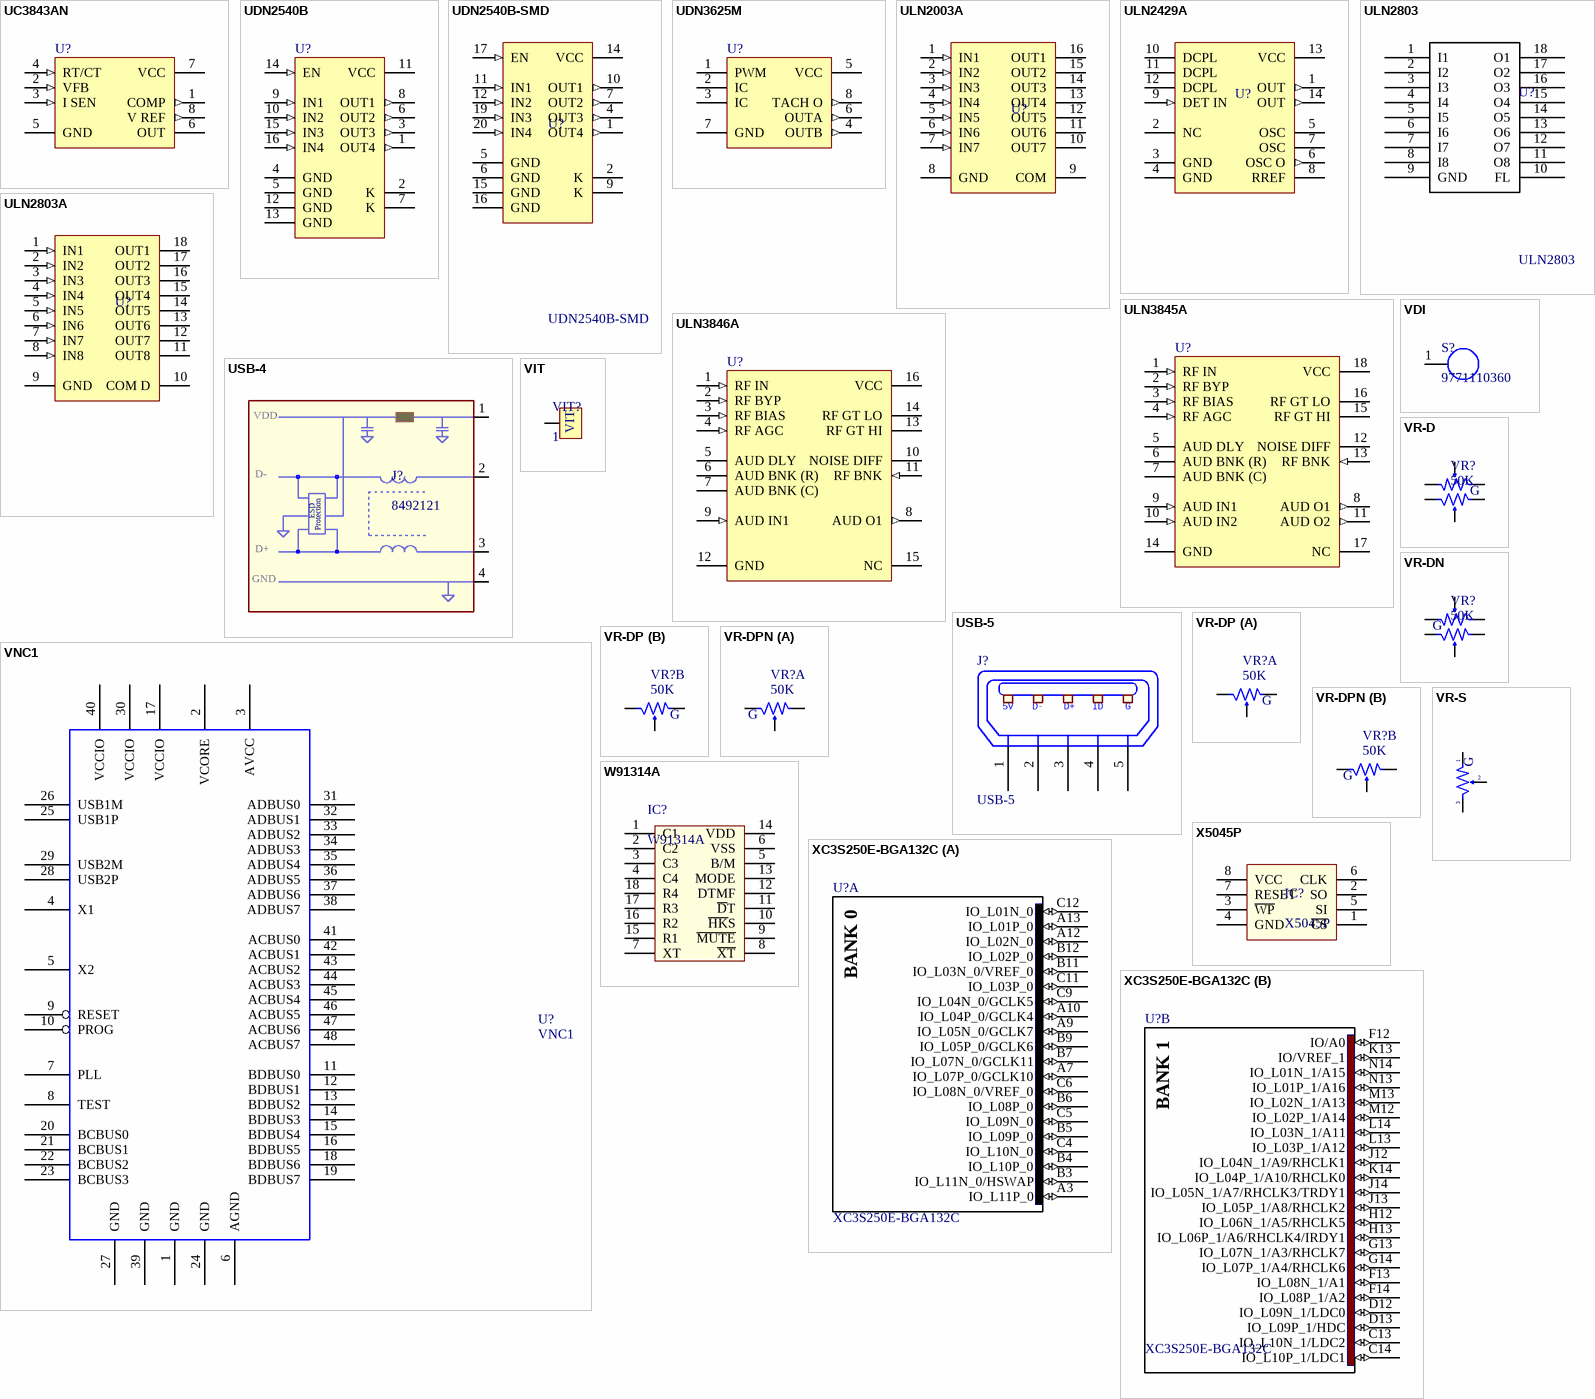
[diagram p44: symbols UC3843AN to XC3S250E-BGA132C]

## UC3843AN
designator U?
High-Performance Current Mode PWM Controller; Published: 24-Aug-2001; LatestRevisionDate: 06-Jun-2005; LatestRevisionNote: Stylized 3D Model Added.; DatasheetVersion: Mar-1999; PackageReference: DIP8; Publisher: Altium Limited; PackageDescription: DIP; 8 Leads; Row Spacing 7.62 mm; Pitch 2.54 mm; Code_JEDEC: MO-001-AN; ComponentLink1Description: Manufacturer Link; ComponentLink1URL: http://www.st.com/; ComponentLink2Description: Datasheet; ComponentLink2URL: http://www.st.com/stonline/products/literature/ds/4298/uc3842a.pdf
footprint DIP8
footprint SO8 (SOIC, 8-Leads, Body 4.9x3.9mm, Pitch 1.27mm, IPC High Density)
pins: 1 COMP (out), 2 VFB (in), 3 I SEN (in), 4 RT/CT (in), 5 GND (power), 6 OUT (hiz), 7 VCC (power), 8 V REF (out)

## UDN2540B
designator U?
Quad Darlington Power Driver; Note: Pins (4,5) and (12,13) exist as TABS; all are internally connected (GND).; ComponentAvailability: Obsolete; Published: 13-Oct-2000; LatestRevisionDate: 06-Jun-2005; LatestRevisionNote: Stylized 3D Model Added.; DatasheetVersion: 1995; PackageVersion: 1994; PackageReference: B16; Publisher: Altium Limited; PackageDescription: DIP; 16 Leads; Row Spacing 7.62 mm; Pitch 2.54 mm; Code_JEDEC: MS-001-BB; ComponentLink1Description: Manufacturer Link; ComponentLink1URL: http://www.allegromicro.com/; ComponentLink2Description: Datasheet; ComponentLink2URL: http://www.allegromicro.com/datafile/archive/2540.pdf
footprint DIP16
pins: 1 OUT4 (out), 2 K, 3 OUT3 (out), 4 GND (power), 5 GND (power), 6 OUT2 (out), 7 K, 8 OUT1 (out), 9 IN1 (in), 10 IN2 (in), 11 VCC (power), 12 GND (power), 13 GND (power), 14 EN (in), 15 IN3 (in), 16 IN4 (in)

## UDN2540B-SMD
designator U?
Quad Darlington Power Driver; Note: Pins (4,5) and (12,13) exist as TABS; all are internally connected (GND).; ComponentAvailability: Obsolete; Published: 13-Oct-2000; LatestRevisionDate: 06-Jun-2005; LatestRevisionNote: Stylized 3D Model Added.; DatasheetVersion: 1995; PackageVersion: 1994; PackageReference: B16; Publisher: Altium Limited; PackageDescription: DIP; 16 Leads; Row Spacing 7.62 mm; Pitch 2.54 mm; Code_JEDEC: MS-001-BB; ComponentLink1Description: Manufacturer Link; ComponentLink1URL: http://www.allegromicro.com/; ComponentLink2Description: Datasheet; ComponentLink2URL: http://www.allegromicro.com/datafile/archive/2540.pdf
footprint SO20 (SOIC, 20-Leads, Body 12.60x7.50mm, Pitch 1.27mm, IPC Medium Density)
pins: 1 OUT4 (out), 2 K, 4 OUT3 (out), 5 GND (power), 6 GND (power), 7 OUT2 (out), 9 K, 10 OUT1 (out), 11 IN1 (in), 12 IN2 (in), 14 VCC (power), 15 GND (power), 16 GND (power), 17 EN (in), 19 IN3 (in), 20 IN4 (in)

## UDN3625M
designator U?
Power Hall Sensor/Driver for Brushless DC Motors; ComponentAvailability: Obsolete; Published: 13-Oct-2000; LatestRevisionDate: 06-Jun-2005; LatestRevisionNote: Stylized 3D Model Added.; DatasheetVersion: 1995; PackageVersion: 1995; PackageReference: M8; Publisher: Altium Limited; PackageDescription: DIP; 8 Leads; Row Spacing 7.62 mm; Pitch 2.54 mm; ComponentLink1Description: Manufacturer Link; ComponentLink1URL: http://www.allegromicro.com/; ComponentLink2Description: Datasheet; ComponentLink2URL: http://www.allegromicro.com/datafile/archive/3625.pdf
footprint DIP8
pins: 1 PWM, 2 IC, 3 IC, 4 OUTB (out), 5 VCC (power), 6 OUTA (out), 7 GND (power), 8 TACH O (out)

## ULN2003A
designator U?
High-Voltage, High-Current Darlington Array; Published: 13-Oct-2000; LatestRevisionDate: 06-Jun-2005; LatestRevisionNote: Stylized 3D Model Added.; DatasheetVersion: 1998; PackageVersion: 1998; PackageReference: A16; Publisher: Altium Limited; PackageDescription: DIP; 16 Leads; Row Spacing 7.62 mm; Pitch 2.54 mm; Code_JEDEC: MS-001-BB; ComponentLink1Description: Manufacturer Link; ComponentLink1URL: http://www.allegromicro.com/
footprint DIP16
footprint SO16 (SOIC, 16-Leads, Body 9.90x3.91mm, Pitch 1.27mm, IPC Medium Density)
pins: 1 IN1 (in), 2 IN2 (in), 3 IN3 (in), 4 IN4 (in), 5 IN5 (in), 6 IN6 (in), 7 IN7 (in), 8 GND (power), 9 COM, 10 OUT7 (oc), 11 OUT6 (oc), 12 OUT5 (oc), 13 OUT4 (oc), 14 OUT3 (oc), 15 OUT2 (oc), 16 OUT1 (oc)

## ULN2429A
designator U?
Fluid Detector; ComponentAvailability: Obsolete; Published: 13-Oct-2000; LatestRevisionDate: 06-Jun-2005; LatestRevisionNote: Stylized 3D Model Added.; DatasheetVersion: 1995; PackageVersion: 1995; PackageReference: A14; Publisher: Altium Limited; PackageDescription: DIP; 14 Leads; Row Spacing 7.62 mm; Pitch 2.54 mm; ComponentLink1Description: Manufacturer Link; ComponentLink1URL: http://www.allegromicro.com/; ComponentLink2Description: Datasheet; ComponentLink2URL: http://www.allegromicro.com/datafile/archive/2429.pdf
footprint DIP14
pins: 1 OUT (out), 2 NC, 3 GND (power), 4 GND (power), 5 OSC, 6 OSC O (out), 7 OSC, 8 RREF, 9 DET IN (in), 10 DCPL, 11 DCPL, 12 DCPL, 13 VCC (power), 14 OUT (out)

## ULN2803
designator U?
OCTAL HIGH CURRENT DRIVER; Manufacturer: Texas Instruments; Manufacturer Part Number: ULN2803ADWR; Number of Drivers/Receivers: 8/0; Voltage - Supply: 5V; Supplier 1: Digi-Key; Supplier Part Number 1: 296-15777-1-ND; Packaging: Cut Tape (CT); Supplier Part Number: 296-15777-1-ND; Type: Darlington Array; Supplier: Digi-Key; Protocol: -; Package / Case: 18-SOIC (7.5mm Width); Category: Integrated Circuits (ICs); RoHS: RoHS Compliant
footprint SO18 (SOIC, 18-Leads, Body 11.6x7.5mm, Pitch 1.27mm, IPC High Density)
footprint DIP18 (DIP; 18 Leads; Row Spacing 7.62 mm; Pitch 2.54 mm)
pins: 1 I1, 2 I2, 3 I3, 4 I4, 5 I5, 6 I6, 7 I7, 8 I8, 9 GND, 10 FL, 11 O8, 12 O7, 13 O6, 14 O5, 15 O4, 16 O3, 17 O2, 18 O1

## ULN2803A
designator U?
High-Voltage, High-Current Darlington Array; Published: 13-Oct-2000; LatestRevisionDate: 06-Jun-2005; LatestRevisionNote: Stylized 3D Model Added.; DatasheetVersion: 1999; PackageVersion: 1999; PackageReference: A18; Publisher: Altium Limited; PackageDescription: DIP; 18 Leads; Row Spacing 7.62 mm; Pitch 2.54 mm; ComponentLink1Description: Manufacturer Link; ComponentLink1URL: http://www.allegromicro.com/
footprint DIP18 (DIP; 18 Leads; Row Spacing 7.62 mm; Pitch 2.54 mm)
footprint SO18 (SOIC, 18-Leads, Body 11.50x7.50mm, Pitch 1.27mm, IPC Medium Density)
pins: 1 IN1 (in), 2 IN2 (in), 3 IN3 (in), 4 IN4 (in), 5 IN5 (in), 6 IN6 (in), 7 IN7 (in), 8 IN8 (in), 9 GND (power), 10 COM D, 11 OUT8 (oc), 12 OUT7 (oc), 13 OUT6 (oc), 14 OUT5 (oc), 15 OUT4 (oc), 16 OUT3 (oc), 17 OUT2 (oc), 18 OUT1 (oc)

## ULN3845A
designator U?
AM Stereo Noise Blanker; ComponentAvailability: Obsolete; Published: 13-Oct-2000; LatestRevisionDate: 06-Jun-2005; LatestRevisionNote: Stylized 3D Model Added.; DatasheetVersion: 1995; PackageVersion: 1999; PackageReference: A18; Publisher: Altium Limited; PackageDescription: DIP; 18 Leads; Row Spacing 7.62 mm; Pitch 2.54 mm; ComponentLink1Description: Manufacturer Link; ComponentLink1URL: http://www.allegromicro.com/; ComponentLink2Description: Datasheet; ComponentLink2URL: http://www.allegromicro.com/datafile/archive/3845.pdf
footprint DIP18 (DIP; 18 Leads; Row Spacing 7.62 mm; Pitch 2.54 mm)
pins: 1 RF IN (in), 2 RF BYP (in), 3 RF BIAS (in), 4 RF AGC (in), 5 AUD DLY, 6 AUD BNK (R), 7 AUD BNK (C), 8 AUD O1 (out), 9 AUD IN1 (in), 10 AUD IN2 (in), 11 AUD O2 (out), 12 NOISE DIFF, 13 RF BNK (in), 14 GND (power), 15 RF GT HI, 16 RF GT LO, 17 NC, 18 VCC (power)

## ULN3846A
designator U?
AM Mono Noise Blanker; ComponentAvailability: Obsolete; Published: 13-Oct-2000; LatestRevisionDate: 06-Jun-2005; LatestRevisionNote: Stylized 3D Model Added.; DatasheetVersion: 1995; PackageVersion: 1998; PackageReference: A16; Publisher: Altium Limited; PackageDescription: DIP; 16 Leads; Row Spacing 7.62 mm; Pitch 2.54 mm; Code_JEDEC: MS-001-BB; ComponentLink1Description: Manufacturer Link; ComponentLink1URL: http://www.allegromicro.com/; ComponentLink2Description: Datasheet; ComponentLink2URL: http://www.allegromicro.com/datafile/archive/3845.pdf
footprint DIP16
pins: 1 RF IN (in), 2 RF BYP (in), 3 RF BIAS (in), 4 RF AGC (in), 5 AUD DLY, 6 AUD BNK (R), 7 AUD BNK (C), 8 AUD O1 (out), 9 AUD IN1 (in), 10 NOISE DIFF, 11 RF BNK (in), 12 GND (power), 13 RF GT HI, 14 RF GT LO, 15 NC, 16 VCC (power)

## USB-4
designator J?, comment 8492121
THT USB 2.0 A Connector WE-EPLE; Manufacturer: Würth Elektronik eiSos GmbH; PartNo: 8492121; ComponentLink1Description: Manufacturer; ComponentLink1URL: http://www.we-online.de; Created by: Christin Otto; Created Date: OCT-2014; ComponentLink2Description: Datasheet; ComponentLink2URL: http://www.we-online.de/katalog/media/pdf/8492121.pdf
footprint USB-C1 (THT, USB 2.0 A Connector, 4Pin, Body 15.8 x14.5mm)
footprint USB-D1
footprint USB-C2
footprint USB-C3
footprint USB-D2 (For USB SMD)
pins: 1 VBUS, 2 D-, 3 D+, 4 GND
text: VDD; ESD; Protection